# Altium schematic symbol library RT8299ZQW.SchLib: 1 symbol
Pins are listed as number, name and electrical type; pins without a type are passive.

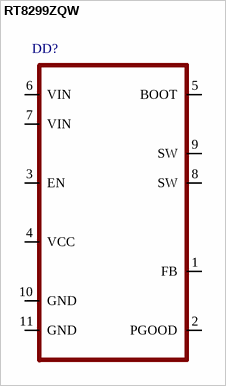
[diagram p0: symbol RT8299ZQW]

## RT8299ZQW
designator DD?
pins: 1 FB, 2 PGOOD, 3 EN, 4 VCC, 5 BOOT, 6 VIN, 7 VIN, 8 SW, 9 SW, 10 GND, 11 GND